# EAGLE library part RJ45_VERTICAL (library FCI_RJ12)
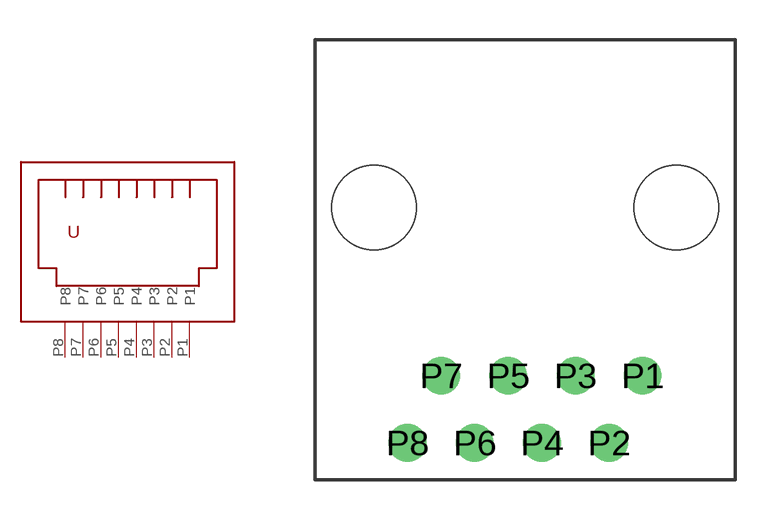
[diagram p3: symbol with the pads of RJ45_VERTICAL_MOLEX_42878; footprint RJ45_VERTICAL_MOLEX_42878]

Designator prefix -

## RJ45_VERTICAL  [RJ45_VERTICAL_MOLEX_42878]
P1  P1
P2  P2
P3  P3
P4  P4
P5  P5
P6  P6
P7  P7
P8  P8

## Footprint RJ45_VERTICAL_MOLEX_42878 (pad centres in mm)
drill 0.8 pad 1.422: P1 4.445,-6.35; P2 3.175,-8.89; P3 1.905,-6.35; P4 0.635,-8.89; P5 -0.635,-6.35; P6 -1.905,-8.89; P7 -3.175,-6.35; P8 -4.445,-8.89
hole 3.2 at 5.715,0
hole 3.2 at -5.715,0